# Altium schematic symbol library HDMI.SchLib: 1 symbol
Pins are listed as number, name and electrical type; pins without a type are passive.

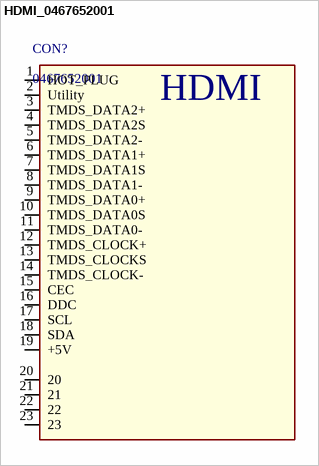
[diagram p0: symbol HDMI_0467652001]

## HDMI_0467652001
designator CON?, comment 0467652001
PDF: http://www.molex.com/pdm_docs/sd/467652001_sd.pdf; BUY_LINK: http://www.digikey.com/product-detail/en/0467652001/WM1280CT-ND/2330700; ID: 0467652001; PRICE: 2.66000
footprint 0467652001
pins: 1 HOT_PLUG, 2 Utility, 3 TMDS_DATA2+, 4 TMDS_DATA2S, 5 TMDS_DATA2-, 6 TMDS_DATA1+, 7 TMDS_DATA1S, 8 TMDS_DATA1-, 9 TMDS_DATA0+, 10 TMDS_DATA0S, 11 TMDS_DATA0-, 12 TMDS_CLOCK+, 13 TMDS_CLOCKS, 14 TMDS_CLOCK-, 15 CEC, 16 DDC, 17 SCL, 18 SDA, 19 +5V, 20, 21, 22, 23
text: HDMI